# Altium footprint library PCB - LEADLESS - QFN - TI UQFN-10 RSE.PcbLib: 1 footprints
Each footprint in its own frame and in the unit in brackets; x right, y up, seen from the top. Pads: shape width x height; smd on the part's side, far side on the other; paste and mask are expansions set on the pad; w line width, h text height; cw(c..) or ccw(c..) is an arc to the next point about the centre after c.
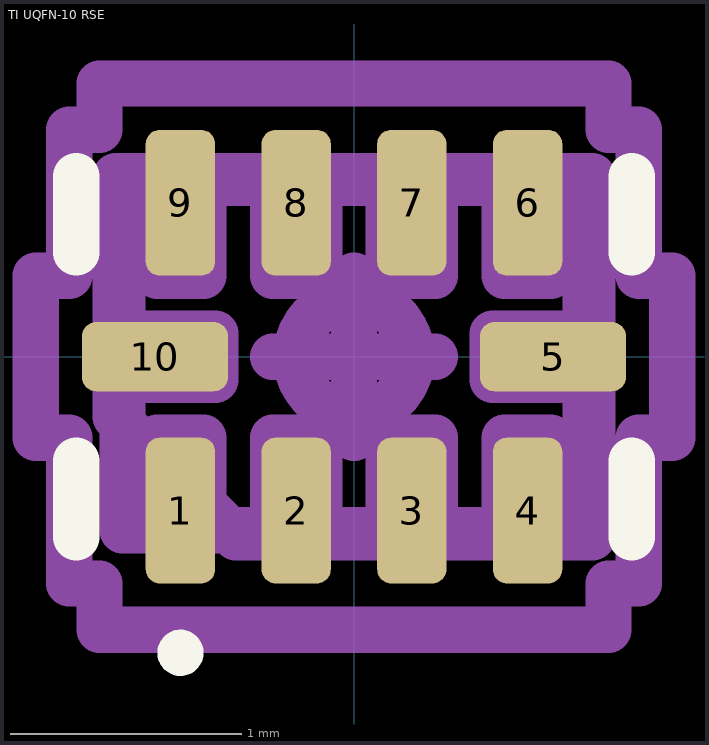
[diagram p0: the footprint, top view; thin cyan lines are the x and y axes]

## TI UQFN-10 RSE [mm] "Quad Flat No-Lead (QFN), 0.50 mm pitch; rect., 4 pin X 1 pin, 2.00 mm L X 1.50 mm W X 0.60 mm H body"
height 0.6
pads (10):
  rrect40% 0.3x0.63 smd: 1(-0.75,-0.665) 2(-0.25,-0.665) 3(0.25,-0.665) 4(0.75,-0.665) 6(0.75,0.665) 7(0.25,0.665) 8(-0.25,0.665) 9(-0.75,0.665)
  rrect40% 0.63x0.3 smd: 5(0.86,0) 10(-0.86,0)
Top Overlay:
  circle w0.1: c-0.75,-1.28 r0.05
  lines w0.2: -1.2,-0.78 -1.2,-0.45 ; -1.2,0.45 -1.2,0.78 ; 1.2,-0.78 1.2,-0.45 ; 1.2,0.45 1.2,0.78
Mechanical 11:
  lines w0.2: -1.03,-0.26 -0.51,-0.78 1.03,-0.78 1.03,0.78 -1.03,0.78 -1.03,-0.26
Mechanical 12:
  lines w0.2: -1,-0.75 -1,0.75 1,0.75 1,-0.75 -1,-0.75 ; -1,-0.1 -0.6,-0.1 -0.6,0.1 -1,0.1 -1,-0.1 ; -0.85,-0.75 -0.65,-0.75 -0.65,-0.35 -0.85,-0.35 -0.85,-0.75 ; -0.85,0.35 -0.65,0.35 -0.65,0.75 -0.85,0.75 -0.85,0.35 ; -0.35,-0.75 -0.15,-0.75 -0.15,-0.35 -0.35,-0.35 -0.35,-0.75 ; -0.35,0.35 -0.15,0.35 -0.15,0.75 -0.35,0.75 -0.35,0.35 ; 0.15,-0.75 0.35,-0.75 0.35,-0.35 0.15,-0.35 0.15,-0.75 ; 0.15,0.35 0.35,0.35 0.35,0.75 0.15,0.75 0.15,0.35 ; 0.6,-0.1 0.6,0.1 1,0.1 1,-0.1 0.6,-0.1 ; 0.65,-0.75 0.85,-0.75 0.85,-0.35 0.65,-0.35 0.65,-0.75 ; 0.65,0.35 0.85,0.35 0.85,0.75 0.65,0.75 0.65,0.35
Mechanical 15:
  circle w0.2: c0,0 r0.25
  lines w0.2: -0.35,0 0.35,0 ; 0,-0.35 0,0.35 ; -1.375,-0.35 -1.375,0.35 -1.23,0.35 -1.23,0.98 -1.1,0.98 -1.1,1.18 1.1,1.18 1.1,0.98 1.23,0.98 1.23,0.35 1.375,0.35 1.375,-0.35 1.23,-0.35 1.23,-0.98 1.1,-0.98 1.1,-1.18 -1.1,-1.18 -1.1,-0.98 -1.23,-0.98 -1.23,-0.35 -1.375,-0.35
3D body "PCB - LEADLESS - QFN - TI UQFN-10 RSE.STEP": height 0.6, standoff 0, extent -1.05,-0.8 1.05,0.8